# Altium footprint library QFP_Thin_Rect_50P_Side_L.PcbLib: 1 footprints
Each footprint in its own frame and in the unit in brackets; x right, y up, seen from the top. Pads: shape width x height; smd on the part's side, far side on the other; paste and mask are expansions set on the pad; w line width, h text height; cw(c..) or ccw(c..) is an arc to the next point about the centre after c.
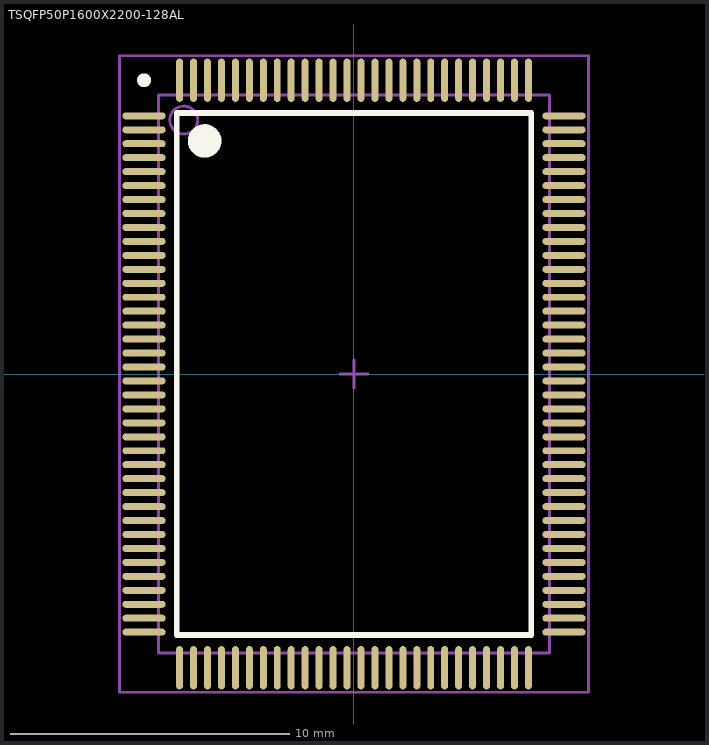
[diagram p0: the footprint, top view; thin cyan lines are the x and y axes]

## TSQFP50P1600X2200-128AL [mm] "Thin QFP, 128-Leads, Body 20x14 mm, Pitch 0.5mm, IPC High Density"
height 1.6
pads (128):
  oval 1.55x0.25 smd: 1(-7.525,9.25) 2(-7.525,8.75) 3(-7.525,8.25) 4(-7.525,7.75) 5(-7.525,7.25) 6(-7.525,6.75) 7(-7.525,6.25) 8(-7.525,5.75) 9(-7.525,5.25) 10(-7.525,4.75) 11(-7.525,4.25) 12(-7.525,3.75) 13(-7.525,3.25) 14(-7.525,2.75) 15(-7.525,2.25) 16(-7.525,1.75) 17(-7.525,1.25) 18(-7.525,0.75) 19(-7.525,0.25) 20(-7.525,-0.25) 21(-7.525,-0.75) 22(-7.525,-1.25) 23(-7.525,-1.75) 24(-7.525,-2.25) 25(-7.525,-2.75) 26(-7.525,-3.25) 27(-7.525,-3.75) 28(-7.525,-4.25) 29(-7.525,-4.75) 30(-7.525,-5.25) 31(-7.525,-5.75) 32(-7.525,-6.25) 33(-7.525,-6.75) 34(-7.525,-7.25) 35(-7.525,-7.75) 36(-7.525,-8.25) 37(-7.525,-8.75) 38(-7.525,-9.25) 65(7.525,-9.25) 66(7.525,-8.75) 67(7.525,-8.25) 68(7.525,-7.75) 69(7.525,-7.25) 70(7.525,-6.75) 71(7.525,-6.25) 72(7.525,-5.75) 73(7.525,-5.25) 74(7.525,-4.75) 75(7.525,-4.25) 76(7.525,-3.75) 77(7.525,-3.25) 78(7.525,-2.75) 79(7.525,-2.25) 80(7.525,-1.75) 81(7.525,-1.25) 82(7.525,-0.75) 83(7.525,-0.25) 84(7.525,0.25) 85(7.525,0.75) 86(7.525,1.25) 87(7.525,1.75) 88(7.525,2.25) 89(7.525,2.75) 90(7.525,3.25) 91(7.525,3.75) 92(7.525,4.25) 93(7.525,4.75) 94(7.525,5.25) 95(7.525,5.75) 96(7.525,6.25) 97(7.525,6.75) 98(7.525,7.25) 99(7.525,7.75) 100(7.525,8.25) 101(7.525,8.75) 102(7.525,9.25)
  oval 0.25x1.55 smd: 39(-6.25,-10.525) 40(-5.75,-10.525) 41(-5.25,-10.525) 42(-4.75,-10.525) 43(-4.25,-10.525) 44(-3.75,-10.525) 45(-3.25,-10.525) 46(-2.75,-10.525) 47(-2.25,-10.525) 48(-1.75,-10.525) 49(-1.25,-10.525) 50(-0.75,-10.525) 51(-0.25,-10.525) 52(0.25,-10.525) 53(0.75,-10.525) 54(1.25,-10.525) 55(1.75,-10.525) 56(2.25,-10.525) 57(2.75,-10.525) 58(3.25,-10.525) 59(3.75,-10.525) 60(4.25,-10.525) 61(4.75,-10.525) 62(5.25,-10.525) 63(5.75,-10.525) 64(6.25,-10.525) 103(6.25,10.525) 104(5.75,10.525) 105(5.25,10.525) 106(4.75,10.525) 107(4.25,10.525) 108(3.75,10.525) 109(3.25,10.525) 110(2.75,10.525) 111(2.25,10.525) 112(1.75,10.525) 113(1.25,10.525) 114(0.75,10.525) 115(0.25,10.525) 116(-0.25,10.525) 117(-0.75,10.525) 118(-1.25,10.525) 119(-1.75,10.525) 120(-2.25,10.525) 121(-2.75,10.525) 122(-3.25,10.525) 123(-3.75,10.525) 124(-4.25,10.525) 125(-4.75,10.525) 126(-5.25,10.525) 127(-5.75,10.525) 128(-6.25,10.525)
Top Overlay:
  circle w0.6: c-5.35,8.35 r0.3
  circle w0.25: c-7.525,10.525 r0.125
  lines w0.2: -6.35,-9.35 6.35,-9.35 6.35,9.35 -6.35,9.35 -6.35,-9.35
Mechanical 13:
  circle w0.1: c-6.1,9.1 r0.5
  lines w0.1: -7,-10 7,-10 7,10 -7,10 -7,-10
Mechanical 15:
  lines w0.1: -0.5,0 0.5,0 ; 0,-0.5 0,0.5 ; -8.4,-11.4 8.4,-11.4 8.4,11.4 -8.4,11.4 -8.4,-11.4
3D body: height 1.6, standoff 0, extent -7,-10 7,10